# Altium footprint library Heltec_WiFi_LoRa_32_V3.PcbLib: 1 footprints
Each footprint in its own frame and in the unit in brackets; x right, y up, seen from the top. Pads: shape width x height; smd on the part's side, far side on the other; paste and mask are expansions set on the pad; w line width, h text height; cw(c..) or ccw(c..) is an arc to the next point about the centre after c.
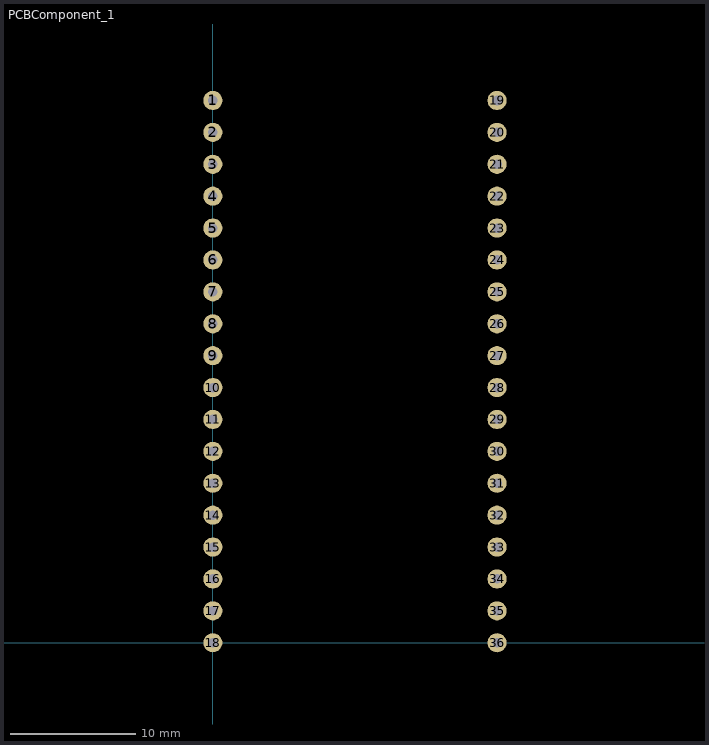
[diagram p0: the footprint, top view; thin cyan lines are the x and y axes]

## PCBComponent_1 [mil]
pads (36):
  round 60 hole 30: 1(0,1700) 2(0,1600) 3(0,1500) 4(0,1400) 5(0,1300) 6(0,1200) 7(0,1100) 8(0,1000) 9(0,900) 10(0,800) 11(0,700) 12(0,600) 13(0,500) 14(0,400) 15(0,300) 16(0,200) 17(0,100) 18(0,0) 19(891,1700) 20(891,1600) 21(891,1500) 22(891,1400) 23(891,1300) 24(891,1200) 25(891,1100) 26(891,1000) 27(891,900) 28(891,800) 29(891,700) 30(891,600) 31(891,500) 32(891,400) 33(891,300) 34(891,200) 35(891,100) 36(891,0)
Bottom Overlay:
  lines w10: -70,-155 955,-155 955,1840 -70,1840 -70,-155